# Altium footprint library compact_v2-5.PcbLib: 15 footprints
Each footprint in its own frame and in the unit in brackets; x right, y up, seen from the top. Pads: shape width x height; smd on the part's side, far side on the other; paste and mask are expansions set on the pad; w line width, h text height; cw(c..) or ccw(c..) is an arc to the next point about the centre after c.
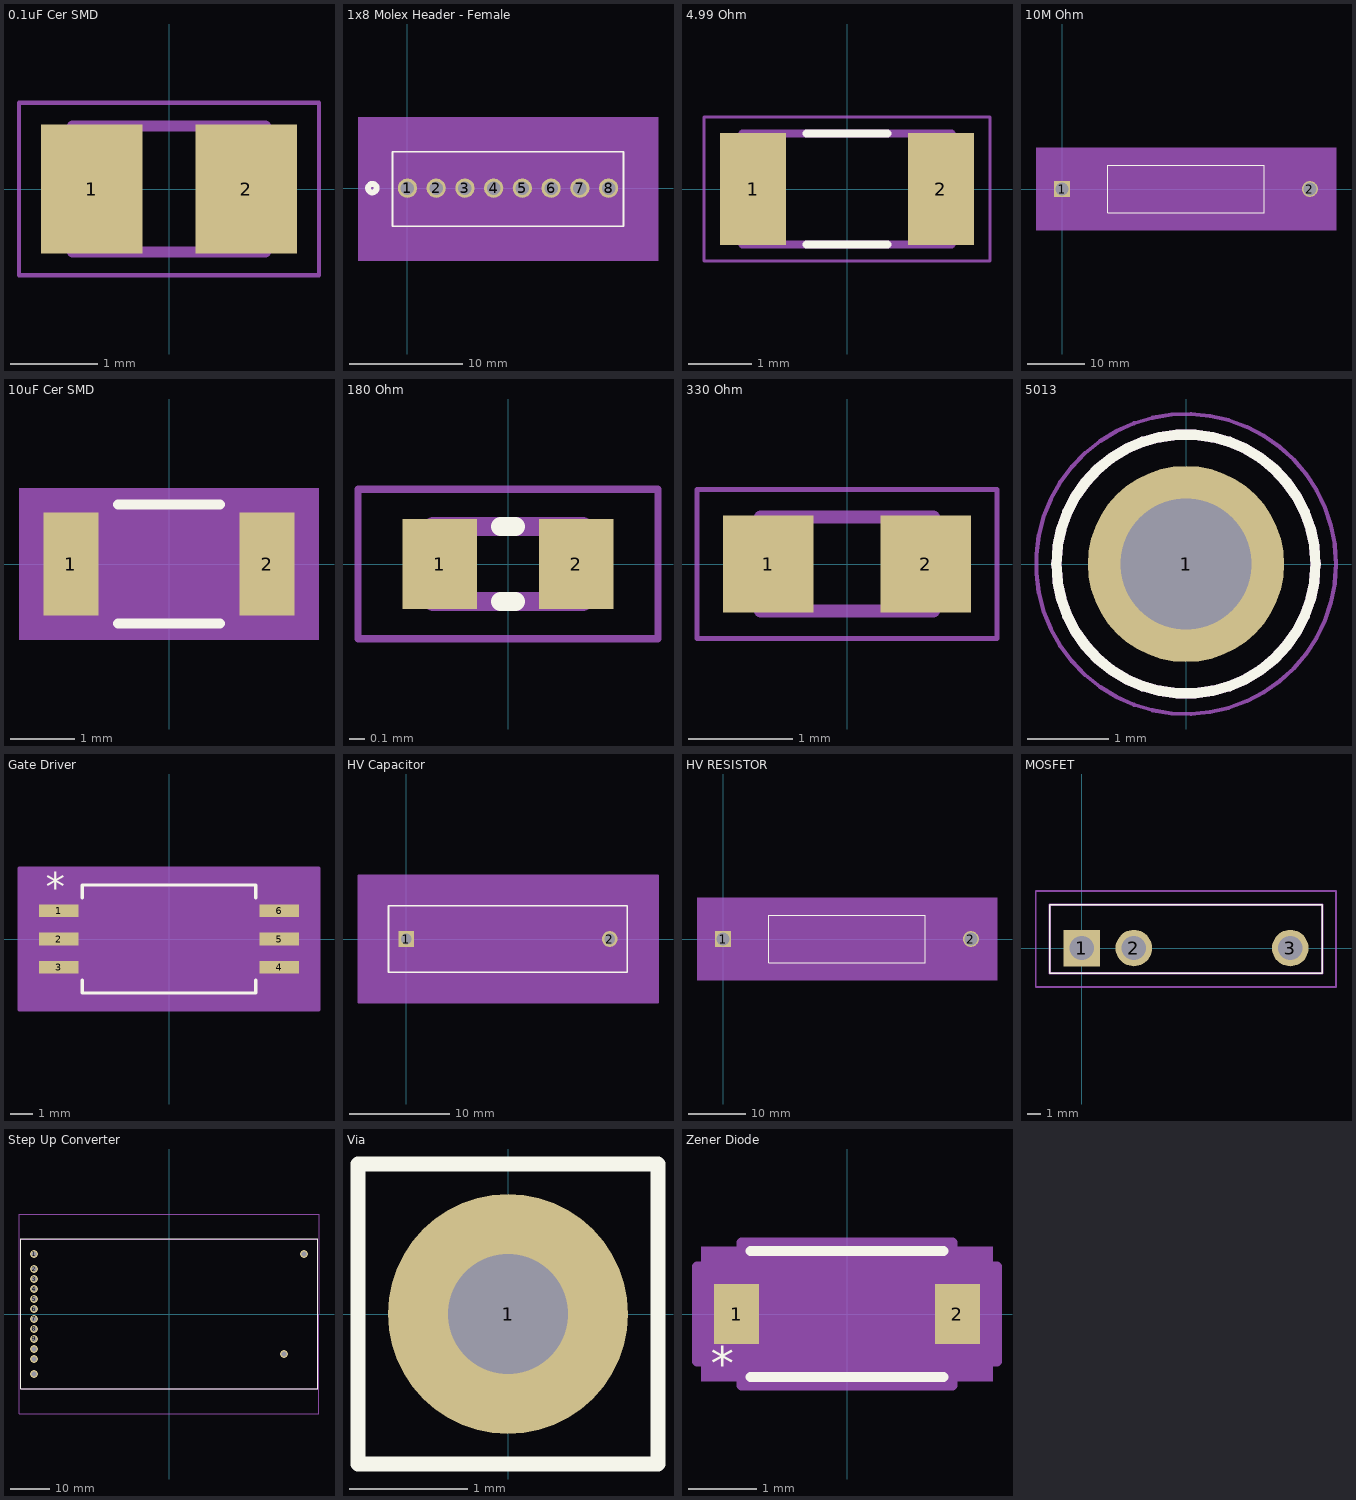
[diagram p0: the footprints below, top view; thin cyan lines are the x and y axes]

## 0.1uF Cer SMD [mm] "CAPC2012X94N"
pads (2):
  rect 1.16x1.47 smd: 1(-0.88,0) 2(0.88,0)
Mechanical 13:
  lines w0.127: -1.1,-0.72 1.1,-0.72 1.1,0.72 -1.1,0.72 -1.1,-0.72
Mechanical 15:
  lines w0.05: -1.713,-0.983 1.713,-0.983 1.713,0.983 -1.713,0.983 -1.713,-0.983
3D body "step_temp.STEP": height 0.94, standoff 0, extent -1.005,-0.625 1.005,0.625

## 1x8 Molex Header - Female [mil] "CONN_171856-0008_MOL"
pads (8):
  round 67 hole 47 mask+0: 1(0,0) 2(100,0) 3(200,0) 4(300,0) 5(400,0) 6(500,0) 7(600,0) 8(700,0)
Top Overlay:
  circle w20: c-122,0 r15
  circle w20: c-122,0 r15
  lines w6: -52,-133 -52,127 752,127 752,-133 -52,-133
Mechanical 5:
  region: -172,247 872,247 872,-253 -172,-253
Mechanical 13:
  circle w20: c0,75 r15
  lines w1: -47,-128 -47,122 747,122 747,-128 -47,-128
Mechanical 15:
  region: 757,132 -57,132 -57,-138 757,-138
  lines w6: -57,-138 757,-138 757,132 -57,132 -57,-138
3D body: height 10, standoff 0, extent 0,0 10,10

## 4.99 Ohm [mm] "RESC3116X65N"
pads (2):
  rect 1.05x1.77 smd: 1(-1.485,0) 2(1.485,0)
Top Overlay:
  lines w0.127: -0.64,-0.88 0.64,-0.88 ; -0.64,0.88 0.64,0.88
Mechanical 13:
  lines w0.127: -1.65,-0.88 1.65,-0.88 1.65,0.88 -1.65,0.88 -1.65,-0.88
Mechanical 15:
  lines w0.05: -2.26,-1.135 2.26,-1.135 2.26,1.135 -2.26,1.135 -2.26,-1.135
3D body "step_temp.STEP": height 0.65, standoff 0, extent -1.6,-0.8 1.6,0.8

## 10M Ohm [mil] "OH_MOX910_OHM"
pads (2):
  rect 110x110 hole 90 mask+0: 1(0,0)
  round 110 hole 90 mask+0: 2(1710,0)
Top Overlay:
  lines w6: 315,-165 1395,-165 1395,165 315,165 315,-165
Mechanical 5:
  region: 1890,-285 -180,-285 -180,285 1890,285
Mechanical 13:
  lines w1: 0,0 320,0 ; 1390,0 1710,0 ; 320,-160 1390,-160 1390,160 320,160 320,-160
Mechanical 15:
  region: 310,-65 -65,-65 -65,65 310,65 310,170 1400,170 1400,65 1775,65 1775,-65 1400,-65 1400,-170 310,-170
  lines w6: -65,-65 -65,65 310,65 310,170 1400,170 1400,65 1775,65 1775,-65 1400,-65 1400,-170 310,-170 310,-65 -65,-65
3D body: height 10, standoff 0, extent 0,0 10,10

## 10uF Cer SMD [mm] "CAP_CL31_SAM"
pads (2):
  rect 0.856x1.6 smd paste+0 mask+0: 1(-1.528,0) 2(1.528,0)
Top Overlay:
  lines w0.152: -0.792,-0.927 0.792,-0.927 ; -0.792,0.927 0.792,0.927
Mechanical 5:
  region: 2.337,-1.181 -2.337,-1.181 -2.337,1.181 2.337,1.181
Mechanical 13:
  lines w0.025: -1.6,-0.8 -1.6,0.8 ; -1.6,-0.8 -1.1,-0.8 -1.1,0.8 -1.6,0.8 ; -1.6,-0.8 1.6,-0.8 ; -1.6,-0.8 -1.6,0.8 ; -1.6,0.8 1.6,0.8 ; 1.6,-0.8 1.1,-0.8 1.1,0.8 1.6,0.8 ; 1.6,-0.8 1.6,0.8 ; 1.6,-0.8 1.6,0.8
Mechanical 15:
  region: 2.21,-1.054 -2.21,-1.054 -2.21,1.054 2.21,1.054
  lines w0.152: -2.21,-1.054 -2.21,1.054 2.21,1.054 2.21,-1.054 -2.21,-1.054
3D body: height 0.25, standoff 0, extent 0,0 0.254,0.254

## 180 Ohm [mm] "RESC1005X40N"
pads (2):
  rect 0.5x0.6 smd: 1(-0.455,0) 2(0.455,0)
Top Overlay:
  lines w0.127: -0.05,-0.25 0.05,-0.25 ; -0.05,0.25 0.05,0.25
Mechanical 13:
  region: 0.5,-0.25 0.3,-0.25 0.3,0.25 0.5,0.25
  region: -0.3,-0.25 -0.5,-0.25 -0.5,0.25 -0.3,0.25
  lines w0.127: -0.5,-0.25 -0.5,0.25 0.5,0.25 0.5,-0.25 -0.5,-0.25
Mechanical 15:
  lines w0.05: -1,-0.5 -1,0.5 1,0.5 1,-0.5 -1,-0.5

## 330 Ohm [mm] "RESC1508X55N"
pads (2):
  rect 0.87x0.93 smd: 1(-0.755,0) 2(0.755,0)
Mechanical 13:
  lines w0.127: -0.83,-0.45 0.83,-0.45 0.83,0.45 -0.83,0.45 -0.83,-0.45
Mechanical 15:
  lines w0.05: -1.44,-0.715 1.44,-0.715 1.44,0.715 -1.44,0.715 -1.44,-0.715

## 5013 [mm] "TESTPOINT_5013"
pads (1):
  round 2.4 hole 1.6: 1(0,0)
Top Overlay:
  circle w0.127: c0,0 r1.585
Mechanical 13:
  circle w0.127: c0,0 r1.585
Mechanical 15:
  circle w0.05: c0,0 r1.835

## Gate Driver [mil] "ADuM4120"
pads (6):
  rect 69.53x22.08 smd paste+0 mask+0: 1(-194.13,50) 2(-194.13,0) 3(-194.13,-50) 4(194.13,-50) 5(194.13,0) 6(194.13,50)
Top Overlay:
  lines w6: -152.64,-72.28 -152.64,-95.06 152.64,-95.06 152.64,-72.28 ; -152.64,72.28 -152.64,95.06 152.64,95.06 152.64,72.28
  text "*" at -216.63,67.08 h50
Mechanical 5:
  region: 263.89,-125.06 -263.89,-125.06 -263.89,125.06 263.89,125.06
Mechanical 13:
  lines w0: -12,90.06 ccw(c0,90.06) 12,90.06
  lines w1: -206.89,-60.04 -147.64,-60.04 -147.64,-39.96 -206.89,-39.96 -206.89,-60.04 ; -206.89,-10.04 -147.64,-10.04 -147.64,10.04 -206.89,10.04 -206.89,-10.04 ; -206.89,39.96 -147.64,39.96 -147.64,60.04 -206.89,60.04 -206.89,39.96 ; -147.64,-90.06 -147.64,90.06 147.64,90.06 147.64,-90.06 -147.64,-90.06 ; 147.64,-60.04 206.89,-60.04 206.89,-39.96 147.64,-39.96 147.64,-60.04 ; 147.64,-10.04 206.89,-10.04 206.89,10.04 147.64,10.04 147.64,-10.04 ; 147.64,39.96 206.89,39.96 206.89,60.04 147.64,60.04 147.64,39.96
  text "*" at -145.14,37.06 h50
Mechanical 15:
  region: -167.64,-81.04 -248.89,-81.04 -248.89,81.04 -167.64,81.04 -167.64,110.06 167.64,110.06 167.64,81.04 248.89,81.04 248.89,-81.04 167.64,-81.04 167.64,-110.06 -167.64,-110.06
  lines w5: -263.78,-125 263.78,-125 263.78,125 -263.78,125 -263.78,-125
  lines w6: 167.64,81.04 167.64,110.06 -167.64,110.06 -167.64,81.04 -248.89,81.04 -248.89,-81.04 -167.64,-81.04 -167.64,-110.06 167.64,-110.06 167.64,-81.04 248.89,-81.04
3D body: height 10, standoff 0, extent 0,0 10,10

## HV Capacitor [mil] "SV17_AVX"
pads (2):
  rect 62x62 hole 42 mask+0: 1(0,0)
  round 62 hole 42 mask+0: 2(800,0)
Top Overlay:
  lines w6: -70,-130 870,-130 870,130 -70,130 -70,-130
Mechanical 5:
  region: 990,-250 -190,-250 -190,250 990,250
Mechanical 13:
  lines w1: -65,-125 -65,125 865,125 865,-125 -65,-125
Mechanical 15:
  region: 875,-135 -75,-135 -75,135 875,135
  lines w5: -189.96,-250 -189.96,250 990.16,250 990.16,-250 -189.96,-250
  lines w6: -75,-135 -75,135 875,135 875,-135 -75,-135
3D body: height 10, standoff 0, extent 0,0 10,10

## HV RESISTOR [mil]
pads (2):
  rect 110x110 hole 90 mask+0: 1(0,0)
  round 110 hole 90 mask+0: 2(1710,0)
Top Overlay:
  lines w6: 315,-165 315,165 1395,165 1395,-165 315,-165
Mechanical 5:
  region: 1890,-285 -180,-285 -180,285 1890,285
Mechanical 13:
  lines w1: 0,0 320,0 ; 1390,0 1710,0 ; 320,-160 320,160 1390,160 1390,-160 320,-160
Mechanical 15:
  region: 310,-65 -65,-65 -65,65 310,65 310,170 1400,170 1400,65 1775,65 1775,-65 1400,-65 1400,-170 310,-170
  lines w6: -65,-65 310,-65 310,-170 1400,-170 1400,-65 1775,-65 1775,65 1400,65 1400,170 310,170 310,65 -65,65 -65,-65
3D body: height 10, standoff 0, extent 0,0 10,10

## MOSFET [mm]
pads (3):
  rect 2.67x2.67 hole 1.78: 1(0,0)
  round 2.67 hole 1.78: 2(3.81,0) 3(15.24,0)
Top Overlay:
  lines w0.127: -2.34,-1.85 -2.34,3.17 17.58,3.17 17.58,-1.85 -2.34,-1.85
Mechanical 13:
  lines w0.2: -2.34,-1.85 -2.34,3.17 17.58,3.17 17.58,-1.85 -2.34,-1.85
Mechanical 15:
  lines w0.1: -3.34,-2.85 -3.34,4.17
  lines w0.127: -3.34,-2.85 18.58,-2.85 18.58,4.17 -3.34,4.17
3D body "IXTL2N450.stp": height 26.52, standoff -5, extent -2.34,-1.85 17.58,3.17

## Step Up Converter [mil] "HRL30"
pads (14):
  round 80 hole 50: 1(-1350.43,600.7) 2(-1350.43,450.7) 3(-1350.43,350.7) 4(-1350.43,250.7) 5(-1350.43,150.7) 6(-1350.43,50.7) 7(-1350.43,-49.3) 8(-1350.43,-149.3) 9(-1350.43,-249.3) 10(-1350.43,-349.3) 11(-1350.43,-449.3) 12(-1350.43,-599.3) 13(1149.57,-399.3) 14(1349.57,600.7)
Top Overlay:
  lines w5: -1485,-749 -1485,751 1485,751 1485,-749 -1485,-749
Mechanical 13:
  lines w10: -1485.43,-749.3 1484.57,-749.3 1484.57,750.7 -1485.43,750.7 -1485.43,-749.3
Mechanical 15:
  lines w10: -1500.43,-999.3 1499.57,-999.3 1499.57,1000.7 -1500.43,1000.7 -1500.43,-999.3

## Via [mil]
pads (1):
  round 80 hole 40: 1(0,0)
Top Overlay:
  lines w5: -50,-50 -50,50 50,50 50,-50 -50,-50

## Zener Diode [mil] "KDZVTR16B"
pads (2):
  rect 26x35 smd paste+0 mask+0: 1(-64,0) 2(64,0)
Top Overlay:
  lines w6: -56,-36.5 56,-36.5 ; -56,36.5 56,36.5
  text "*" at -79,-39 h20
Mechanical 5:
  region: 84.5,-39 -84.5,-39 -84.5,39 84.5,39
Mechanical 13:
  lines w1: -51,-15.75 -35.25,-31.5 ; -51,15.75 -35.25,31.5 ; -69,-17.5 -51,-17.5 -51,17.5 -69,17.5 -69,-17.5 ; -51,-31.5 -51,31.5 51,31.5 51,-31.5 -51,-31.5 ; 51,-17.5 69,-17.5 69,17.5 51,17.5 51,-17.5
  text "*" at -53.5,-25 h50
Mechanical 15:
  region: -61,-27.5 -87,-27.5 -87,27.5 -61,27.5 -61,41.5 61,41.5 61,27.5 87,27.5 87,-27.5 61,-27.5 61,-41.5 -61,-41.5
  lines w6: -87,-27.5 -61,-27.5 -61,-41.5 61,-41.5 61,-27.5 87,-27.5 87,27.5 61,27.5 61,41.5 -61,41.5 -61,27.5 -87,27.5 -87,-27.5
3D body: height 10, standoff 0, extent 0,0 10,10